# EAGLE library part LEA-4P (library paparazzi)
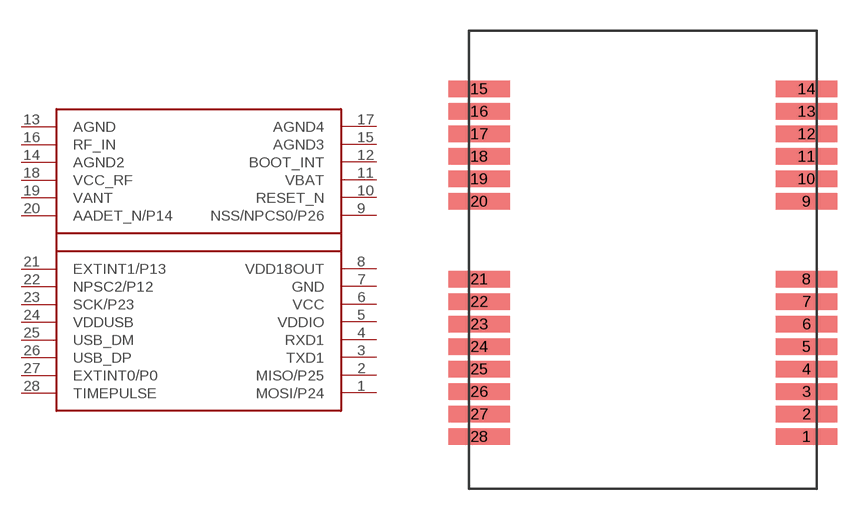
[diagram p30: symbol with the pads of LEA-LA; footprint LEA-LA]

Designator prefix -

## LEA-4P  [LEA-LA]
1  MOSI/P24  out
2  MISO/P25  in
3  TXD1  out
4  RXD1  in
5  VDDIO  pwr
6  VCC  pwr
7  GND  pwr
8  VDD18OUT  pwr
9  NSS/NPCS0/P26  in
10  RESET_N  in
11  VBAT  pwr
12  BOOT_INT  nc
13  AGND  pwr
14  AGND2  pwr
15  AGND3  pwr
16  RF_IN  in
17  AGND4  pwr
18  VCC_RF  pwr
19  VANT  pwr
20  AADET_N/P14  in
21  EXTINT1/P13  in
22  NPSC2/P12  in
23  SCK/P23  nc
24  VDDUSB  nc
25  USB_DM  nc
26  USB_DP  nc
27  EXTINT0/P0
28  TIMEPULSE  out

## Footprint LEA-LA (pad centres in mm)
smd 3 x 0.8: 1 8,-8.65; 2 8,-7.55; 3 8,-6.45; 4 8,-5.35; 5 8,-4.25; 6 8,-3.15; 7 8,-2.05; 8 8,-0.95; 9 8,2.85; 10 8,3.95; 11 8,5.05; 12 8,6.15; 13 8,7.25; 14 8,8.35; 15 -8,8.35; 16 -8,7.25; 17 -8,6.15; 18 -8,5.05; 19 -8,3.95; 20 -8,2.85; 21 -8,-0.95; 22 -8,-2.05; 23 -8,-3.15; 24 -8,-4.25; 25 -8,-5.35; 26 -8,-6.45; 27 -8,-7.55; 28 -8,-8.65